# EAGLE library part _UC_PIC18F25K83 (library SamacSys_Parts)
8-bit Microcontrollers - MCU 12-BIT ADC2 32KB Flash, 2KB RAM Source: Datasheet <http://www.microchip.com/mymicrochip/filehandler.aspx?ddocname=en599873>
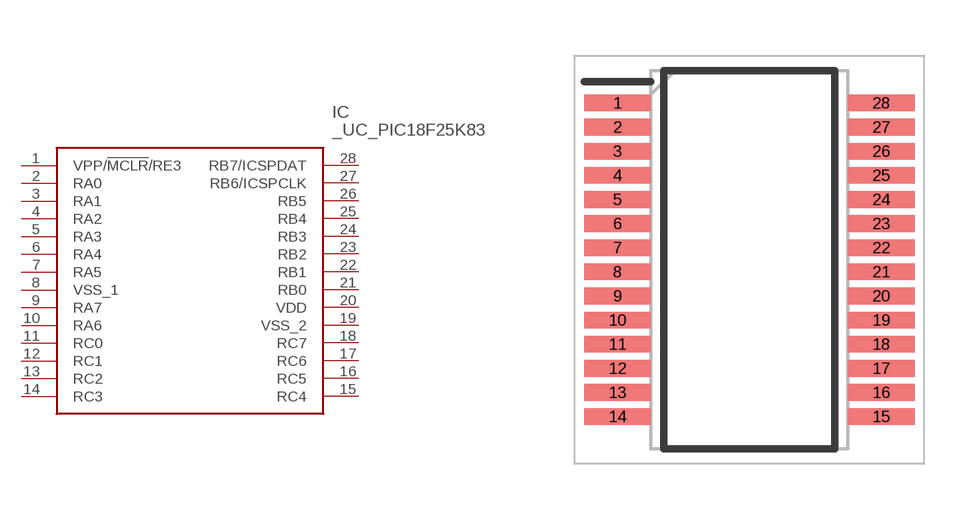
[diagram p38: symbol with the pads of SOP65P780X200-28N; footprint SOP65P780X200-28N]

Designator prefix IC

## _UC_PIC18F25K83 (DESCRIPTION: 8-bit Microcontrollers - MCU 12-BIT ADC2 32KB Flash, 2KB RAM; HEIGHT: 2mm; MANUFACTURER_NAME: Microchip; MANUFACTURER_PART_NUMBER: PIC18F25K83T-I/SS; MOUSER_PART_NUMBER: 579-PIC18F25K83TISS; MOUSER_PRICE-STOCK: https://www.mouser.co.uk/ProductDetail/Microchip-Technology/PIC18F25K83T-I-SS?qs=wd5RIQLrsJgk%252BH7Zf0jczA%3D%3D)  [SOP65P780X200-28N]
1  VPP/!MCLR!/RE3
2  RA0
3  RA1
4  RA2
5  RA3
6  RA4
7  RA5
8  VSS_1
9  RA7
10  RA6
11  RC0
12  RC1
13  RC2
14  RC3
15  RC4
16  RC5
17  RC6
18  RC7
19  VSS_2
20  VDD
21  RB0
22  RB1
23  RB2
24  RB3
25  RB4
26  RB5
27  RB6/ICSPCLK
28  RB7/ICSPDAT

## Footprint SOP65P780X200-28N (pad centres in mm)
(SS)28-Lead(SSOP)
smd 1.8 x 0.45: 1 -3.55,4.225; 2 -3.55,3.575; 3 -3.55,2.925; 4 -3.55,2.275; 5 -3.55,1.625; 6 -3.55,0.975; 7 -3.55,0.325; 8 -3.55,-0.325; 9 -3.55,-0.975; 10 -3.55,-1.625; 11 -3.55,-2.275; 12 -3.55,-2.925; 13 -3.55,-3.575; 14 -3.55,-4.225; 15 3.55,-4.225; 16 3.55,-3.575; 17 3.55,-2.925; 18 3.55,-2.275; 19 3.55,-1.625; 20 3.55,-0.975; 21 3.55,-0.325; 22 3.55,0.325; 23 3.55,0.975; 24 3.55,1.625; 25 3.55,2.275; 26 3.55,2.925; 27 3.55,3.575; 28 3.55,4.225